# EAGLE library part LCD-4X20 (library oli)
LCD 4 x 20 Characters
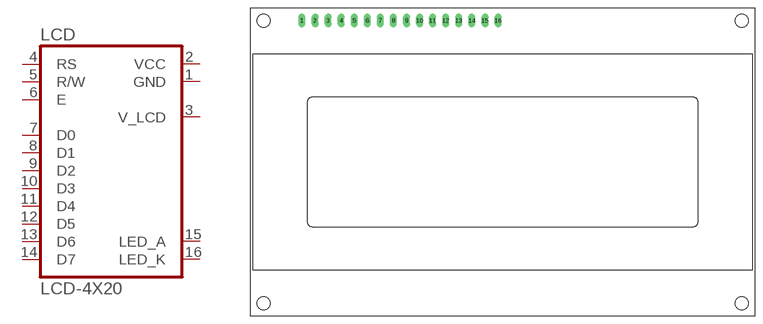
[diagram p0: symbol with the pads of LCD-4X20; footprint LCD-4X20]

Designator prefix LCD

## LCD-4X20  [LCD-4X20]
1  GND  pwr
2  VCC  pwr
3  V_LCD  pas
4  RS  in
5  R/W  in
6  E  in
7  D0
8  D1
9  D2
10  D3
11  D4
12  D5
13  D6
14  D7
15  LED_A  pas
16  LED_K  pas

## Footprint LCD-4X20 (pad centres in mm)
LCD Display 20x4
drill 0.813 long: 1 -39,27.5; 2 -36.46,27.5; 3 -33.92,27.5; 4 -31.38,27.5; 5 -28.84,27.5; 6 -26.3,27.5; 7 -23.76,27.5; 8 -21.22,27.5; 9 -18.68,27.5; 10 -16.14,27.5; 11 -13.6,27.5; 12 -11.06,27.5; 13 -8.52,27.5; 14 -5.98,27.5; 15 -3.44,27.5; 16 -0.9,27.5
hole 2.5 at -46.5,-27.5
hole 2.5 at -46.5,27.5
hole 2.5 at 46.5,27.5
hole 2.5 at 46.5,-27.5